# Altium footprint library MAX31865AAP+.PcbLib: 1 footprints
Each footprint in its own frame and in the unit in brackets; x right, y up, seen from the top. Pads: shape width x height; smd on the part's side, far side on the other; paste and mask are expansions set on the pad; w line width, h text height; cw(c..) or ccw(c..) is an arc to the next point about the centre after c.
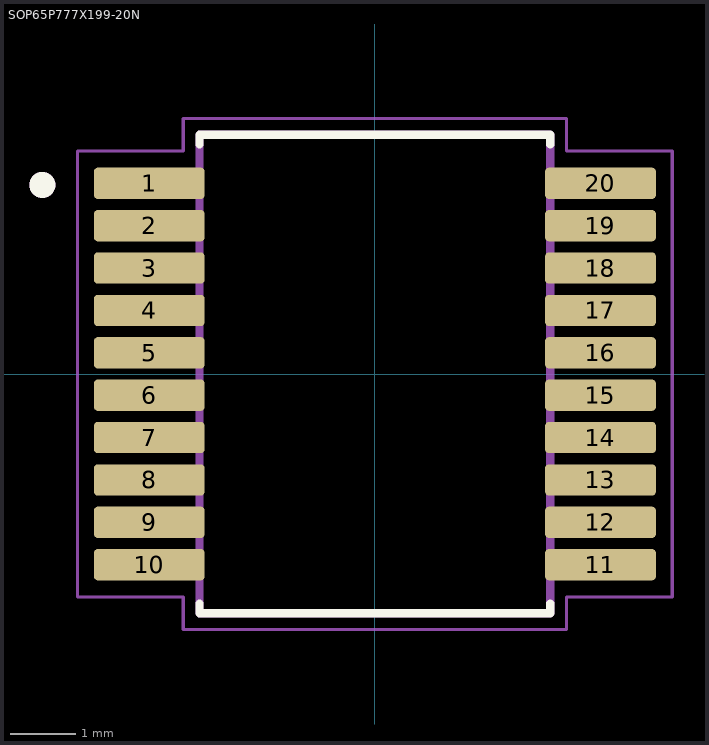
[diagram p0: the footprint, top view; thin cyan lines are the x and y axes]

## SOP65P777X199-20N [mm]
pads (20):
  rrect25% 1.7x0.48 smd: 1(-3.46,2.925) 2(-3.46,2.275) 3(-3.46,1.625) 4(-3.46,0.975) 5(-3.46,0.325) 6(-3.46,-0.325) 7(-3.46,-0.975) 8(-3.46,-1.625) 9(-3.46,-2.275) 10(-3.46,-2.925) 11(3.46,-2.925) 12(3.46,-2.275) 13(3.46,-1.625) 14(3.46,-0.975) 15(3.46,-0.325) 16(3.46,0.325) 17(3.46,0.975) 18(3.46,1.625) 19(3.46,2.275) 20(3.46,2.925)
Top Overlay:
  circle w0.2: c-5.1,2.9 r0.1
  lines w0.127: -2.69,-3.52 -2.69,-3.67 2.69,-3.67 2.69,-3.52 ; -2.69,3.52 -2.69,3.67 2.69,3.67 2.69,3.52
Mechanical 13:
  circle w0.2: c-5.1,2.9 r0.1
  lines w0.127: -2.69,-3.67 2.69,-3.67 2.69,3.67 -2.69,3.67 -2.69,-3.67
Mechanical 15:
  lines w0.05: -4.56,-3.42 -4.56,3.42 -2.94,3.42 -2.94,3.92 2.94,3.92 2.94,3.42 4.56,3.42 4.56,-3.42 2.94,-3.42 2.94,-3.92 -2.94,-3.92 -2.94,-3.42 -4.56,-3.42
3D body "step_temp.STEP": height 1.99, standoff 0, extent -3.888,-3.6 3.888,3.6